# EAGLE library part DUAL_TAPER_POTENTIOMETER (library PP_Passives)
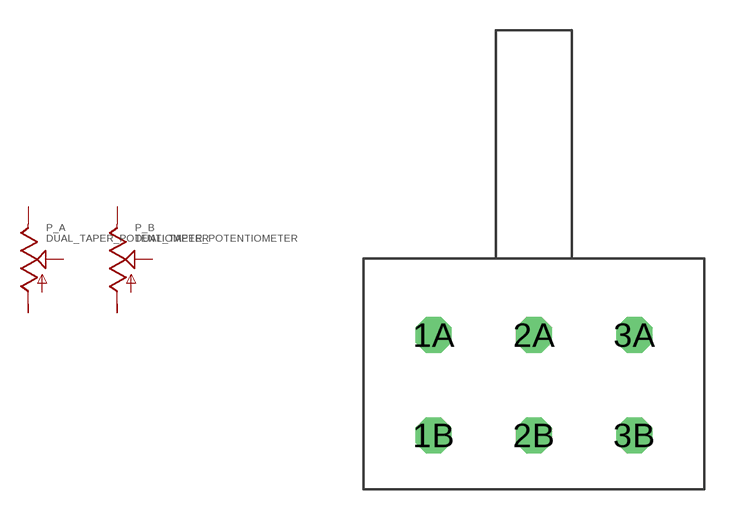
[diagram p1: symbol with the pads of DUAL_TAPER_POTENTIOMETER; footprint DUAL_TAPER_POTENTIOMETER]

Designator prefix P; gates _A=TRIMMER _B=TRIMMER

## DUAL_TAPER_POTENTIOMETER  [DUAL_TAPER_POTENTIOMETER]
1A  _A:1
1B  _B:1
2A  _A:2
2B  _B:2
3A  _A:3
3B  _B:3

## Footprint DUAL_TAPER_POTENTIOMETER (pad centres in mm)
drill 1.2 octagon: 1A -5,-3.8; 1B -5,-8.8; 2A 0,-3.8; 2B 0,-8.8; 3A 5,-3.8; 3B 5,-8.8